# Altium schematic symbol library Schlib-Placa-Mae.SchLib: 12 symbols
Pins are listed as number, name and electrical type; pins without a type are passive.

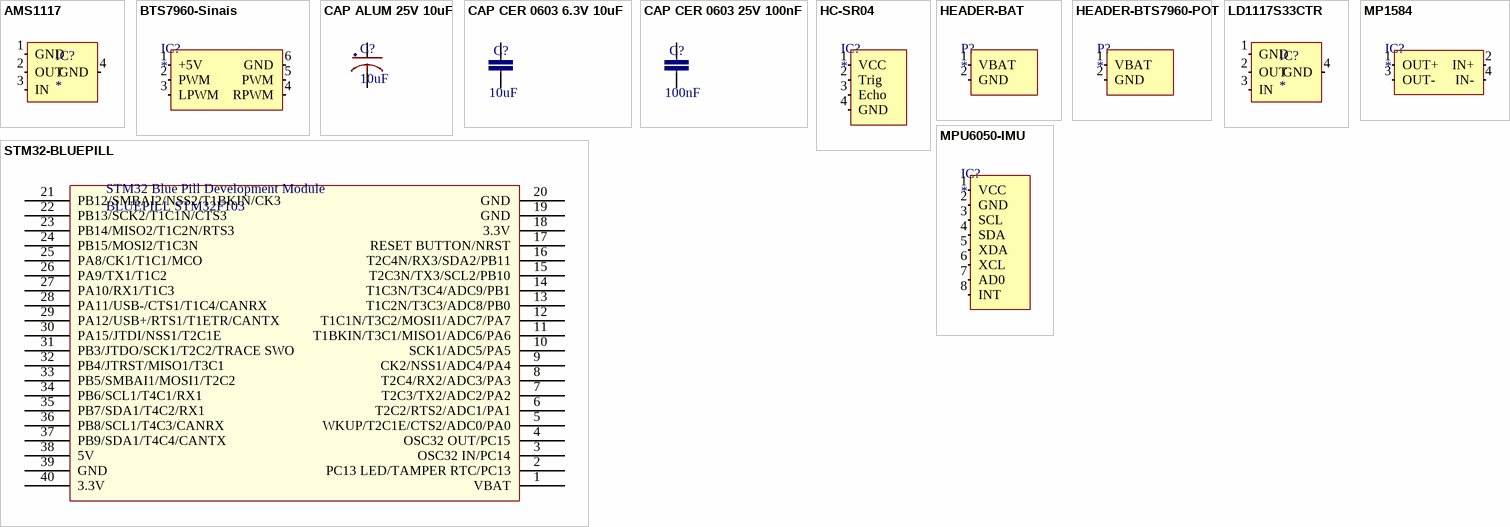
[diagram p0: symbols AMS1117 to STM32-BLUEPILL]

## AMS1117
designator IC?
LDO Voltage Regulators 5V 1A; Mfr: STMicroelectronics; Series: LD1117; Package: SOT-223-3
footprint SOT-223
pins: 1 GND, 2 OUT, 3 IN, 4 GND

## BTS7960-Sinais
designator IC?
Conector com os sinais de controle de velocidade do driver BTS7960
footprint HEADER 3X2 M
pins: 1 +5V, 2 PWM, 3 LPWM, 4 RPWM, 5 PWM, 6 GND

## CAP ALUM 25V 10uF
designator C?, comment 10uF
Aluminum Electrolytic Capacitors - SMD 25volts 10uF 5x5.4 20%; Mfr: Nichion; Mfr Nr: UWX1E100MCL1GB; Voltage Rating: 25V; Type: Surface Mount Aluminum Electrolytic Capacitor; Dimensions: 5x5mm; Series: UWX; Value: 10uF
footprint CAP ALUM 5X5
pins: 1, 2

## CAP CER 0603 6.3V 10uF
designator C?, comment 10uF
Multilayer Ceramic Capacitors MLCC - SMD/SMT 0603 6.3V 10uF X5R 10% Soft Term; Mfr Nr: C1608X5R0J106K080AE; Mfr: TDK; Type: Ceramic Capacitor; Dimensions: 0603 (1608 metric); Voltage Rating: 6.3V; Series: C; Value: 10uF
footprint CAP CER 0603
pins: 1, 2

## CAP CER 0603 25V 100nF
designator C?, comment 100nF
Multilayer Ceramic Capacitors MLCC - SMD/SMT 25V 0.1uF 0603 Y5V -20/+80%; Mfr Nr: C0603C104Z3VACTU; Mfr: KEMET; Type: Ceramic Capacitor; Dimensions: 0603 (1608 metric); Voltage Rating: 25V; Series: SMD Comm Y5V; Value: 100nF
footprint CAP CER 0603
pins: 1, 2

## HC-SR04
designator IC?
Sensor Ultrassom
footprint HC-SR04
pins: 1 VCC, 2 Trig, 3 Echo, 4 GND

## HEADER-BAT
designator P?
footprint XT60-Male
pins: 1 VBAT, 2 GND

## HEADER-BTS7960-POT
designator P?
footprint XT60-Male
pins: 1 VBAT, 2 GND

## LD1117S33CTR
designator IC?
LDO Voltage Regulators 3.3V 0.8A Positive; Mfr: STMicroelectronics; Series: LD1117; Package: SOT-223-3
footprint SOT-223
pins: 1 GND, 2 OUT, 3 IN, 4 GND

## MP1584
designator IC?
pins: 1 OUT+, 2 IN+, 3 OUT-, 4 IN-

## MPU6050-IMU
designator IC?
footprint MPU6050-IMU
pins: 1 VCC, 2 GND, 3 SCL, 4 SDA, 5 XDA, 6 XCL, 7 AD0, 8 INT

## STM32-BLUEPILL
designator STM32 Blue Pill Development Module, comment BLUEPILL STM32F103
STM32 Blue Pill Development Module
footprint STM32-BLUEPILL
pins: 1 VBAT, 2 PC13 LED/TAMPER RTC/PC13, 3 OSC32 IN/PC14, 4 OSC32 OUT/PC15, 5 WKUP/T2C1E/CTS2/ADC0/PA0, 6 T2C2/RTS2/ADC1/PA1, 7 T2C3/TX2/ADC2/PA2, 8 T2C4/RX2/ADC3/PA3, 9 CK2/NSS1/ADC4/PA4, 10 SCK1/ADC5/PA5, 11 T1BKIN/T3C1/MISO1/ADC6/PA6, 12 T1C1N/T3C2/MOSI1/ADC7/PA7, 13 T1C2N/T3C3/ADC8/PB0, 14 T1C3N/T3C4/ADC9/PB1, 15 T2C3N/TX3/SCL2/PB10, 16 T2C4N/RX3/SDA2/PB11, 17 RESET BUTTON/NRST, 18 3.3V, 19 GND, 20 GND, 21 PB12/SMBAI2/NSS2/T1BKIN/CK3, 22 PB13/SCK2/T1C1N/CTS3, 23 PB14/MISO2/T1C2N/RTS3, 24 PB15/MOSI2/T1C3N, 25 PA8/CK1/T1C1/MCO, 26 PA9/TX1/T1C2, 27 PA10/RX1/T1C3, 28 PA11/USB-/CTS1/T1C4/CANRX, 29 PA12/USB+/RTS1/T1ETR/CANTX, 30 PA15/JTDI/NSS1/T2C1E, 31 PB3/JTDO/SCK1/T2C2/TRACE SWO, 32 PB4/JTRST/MISO1/T3C1, 33 PB5/SMBAI1/MOSI1/T2C2, 34 PB6/SCL1/T4C1/RX1, 35 PB7/SDA1/T4C2/RX1, 36 PB8/SCL1/T4C3/CANRX, 37 PB9/SDA1/T4C4/CANTX, 38 5V, 39 GND, 40 3.3V